# EAGLE library part VDIP1 (library PracticalArduino)
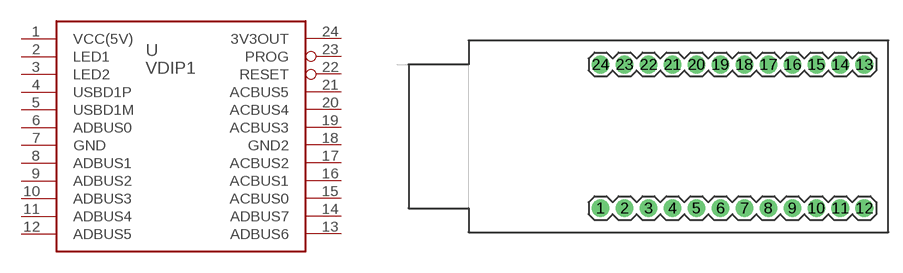
[diagram p2: symbol with the pads of VDIP1-2X12; footprint VDIP1-2X12]

Designator prefix -

## VDIP12X12  [VDIP1-2X12]
1  VCC(5V)  pwr
2  LED1  out
3  LED2  out
4  USBD1P
5  USBD1M
6  ADBUS0
7  GND  pwr
8  ADBUS1
9  ADBUS2
10  ADBUS3
11  ADBUS4
12  ADBUS5
13  ADBUS6
14  ADBUS7
15  ACBUS0
16  ACBUS1
17  ACBUS2
18  GND2  pwr
19  ACBUS3
20  ACBUS4
21  ACBUS5
22  RESET  in
23  PROG  in
24  3V3OUT  pwr

## Footprint VDIP1-2X12 (pad centres in mm)
drill 1.016 pad 1.88 round: 1 -13.97,-7.62; 2 -11.43,-7.62; 3 -8.89,-7.62; 4 -6.35,-7.62; 5 -3.81,-7.62; 6 -1.27,-7.62; 7 1.27,-7.62; 8 3.81,-7.62; 9 6.35,-7.62; 10 8.89,-7.62; 11 11.43,-7.62; 12 13.97,-7.62; 13 13.97,7.62; 14 11.43,7.62; 15 8.89,7.62; 16 6.35,7.62; 17 3.81,7.62; 18 1.27,7.62; 19 -1.27,7.62; 20 -3.81,7.62; 21 -6.35,7.62; 22 -8.89,7.62; 23 -11.43,7.62; 24 -13.97,7.62